# Altium footprint library 电容.PcbLib: 18 footprints (part 1 of 2)
Each footprint in its own frame and in the unit in brackets; x right, y up, seen from the top. Pads: shape width x height; smd on the part's side, far side on the other; paste and mask are expansions set on the pad; w line width, h text height; cw(c..) or ccw(c..) is an arc to the next point about the centre after c.
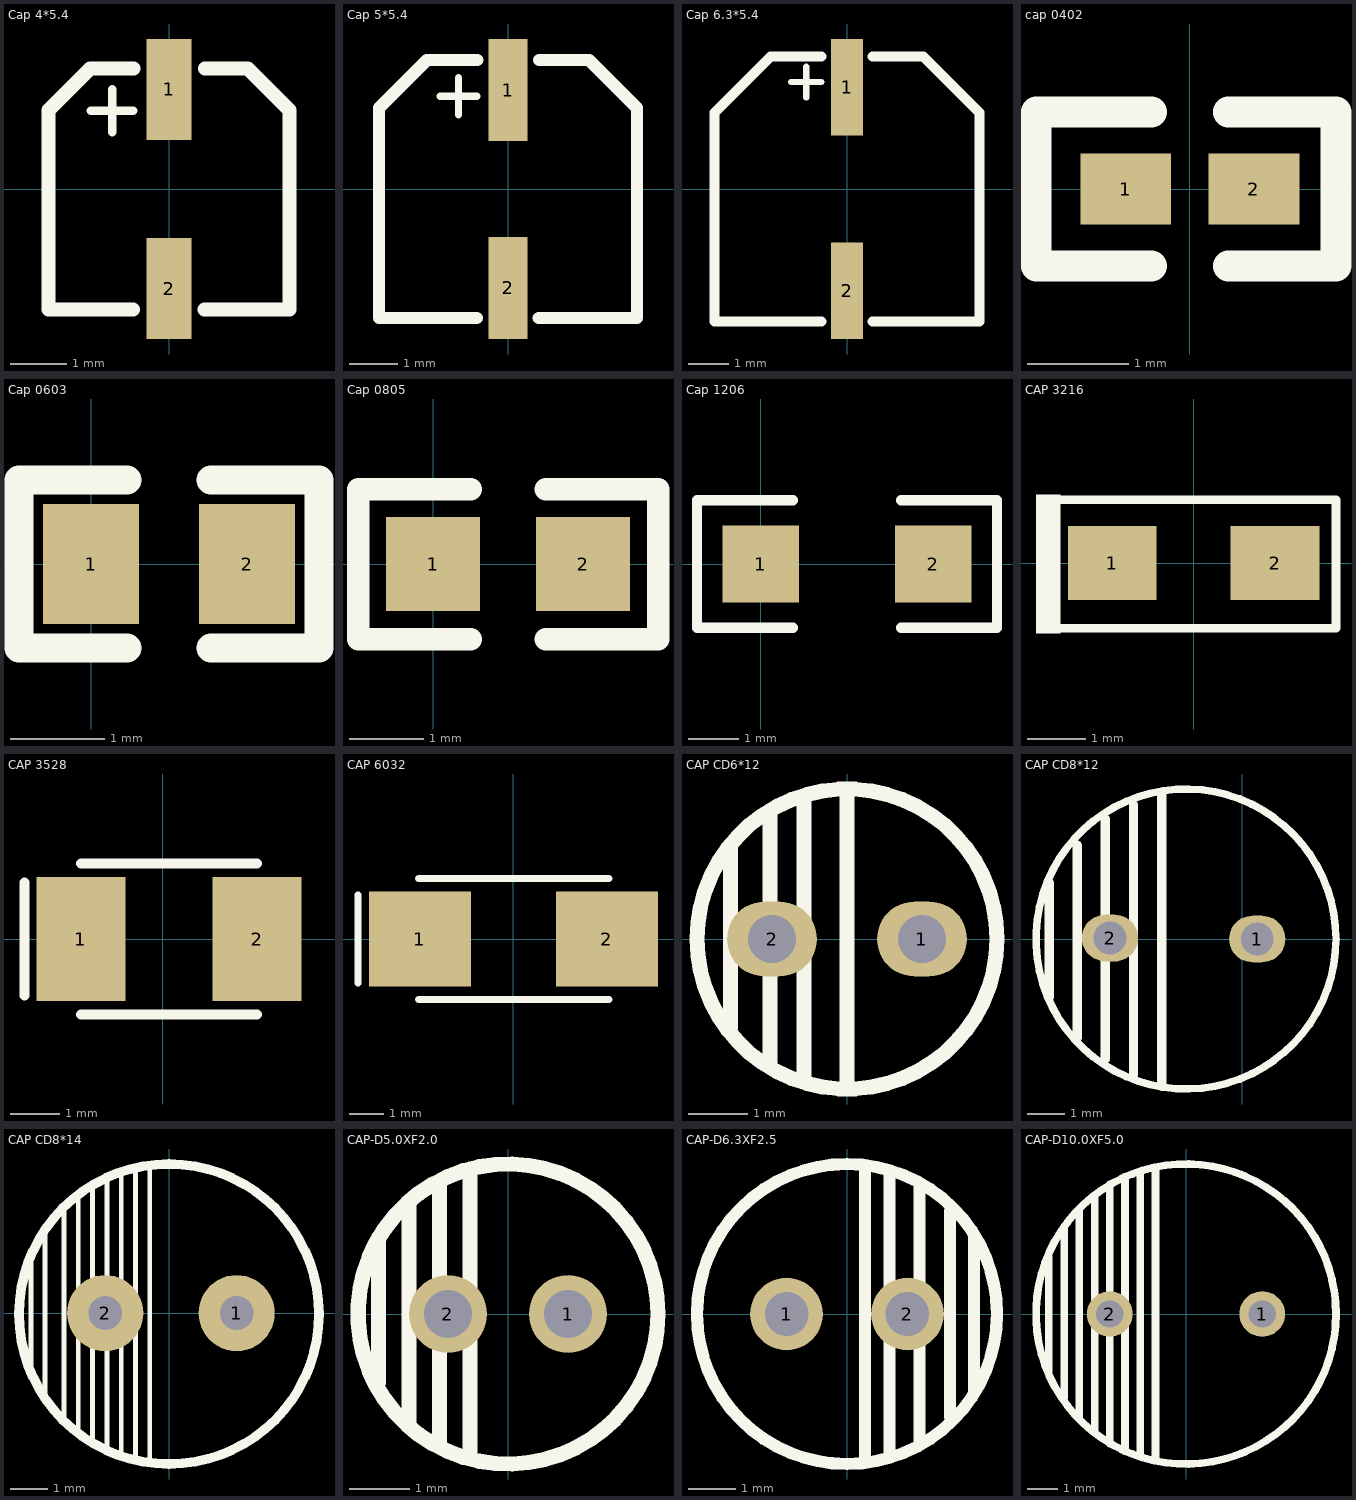
[diagram p0: the footprints below, top view; thin cyan lines are the x and y axes]

## Cap 4*5.4 [mm] "铝电解"
pads (2):
  rect 0.8x1.8 smd: 1(0,1.778) 2(0,-1.778)
Top Overlay:
  lines w0.15: -1.397,1.397 -0.635,1.397 ; -1.016,1.016 -1.016,1.778
  lines w0.254: -0.644,-2.15 -2.15,-2.15 -2.15,1.406 -1.406,2.15 -0.635,2.15 ; 0.635,-2.15 2.15,-2.15 2.15,1.406 1.406,2.15 0.644,2.15

## Cap 5*5.4 [mm] "铝电解"
pads (2):
  rect 0.8x2.1 smd: 1(0,2.032) 2(0,-2.032)
Top Overlay:
  lines w0.15: -1.397,1.905 -0.635,1.905 ; -1.016,1.524 -1.016,2.286
  lines w0.254: -0.644,-2.65 -2.65,-2.65 -2.65,1.668 -1.668,2.65 -0.635,2.65 ; 0.635,-2.65 2.65,-2.65 2.65,1.668 1.668,2.65 0.644,2.65

## Cap 6.3*5.4 [mm] "铝电解"
pads (2):
  rect 0.8x2.4 smd: 1(0,2.54) 2(0,-2.54)
Top Overlay:
  lines w0.15: -1.397,2.667 -0.635,2.667 ; -1.016,2.286 -1.016,3.048
  lines w0.254: -0.644,-3.3 -3.302,-3.302 -3.3,1.907 -1.907,3.3 -0.635,3.3 ; 0.635,-3.3 3.302,-3.302 3.3,1.907 1.907,3.3 0.644,3.3

## cap 0402 [mm]
pads (2):
  rect 0.9x0.7 smd: 1(-0.635,0) 2(0.635,0)
Top Overlay:
  lines w0.305: -0.381,-0.762 -1.524,-0.762 -1.524,0.762 -0.381,0.762 ; 0.381,-0.762 1.448,-0.762 1.448,0.762 0.381,0.762

## Cap 0603 [mil]
pads (2):
  rect 40x50 smd: 1(0,0) 2(65,0)
Top Overlay:
  lines w12: 15,-35 -30,-35 -30,35 15,35 ; 50,-35 95,-35 95,35 50,35

## Cap 0805 [mil]
pads (2):
  rect 50x50 smd: 1(0,0) 2(80,0)
Top Overlay:
  lines w12: 20,-40 -40,-40 -40,40 20,40 ; 60,-40 120,-40 120,40 60,40

## Cap 1206 [mil]
pads (2):
  rect 60x60 smd: 1(0,0) 2(135,0)
Top Overlay:
  lines w8: 25,-50 -50,-50 -50,50 25,50 ; 110,-50 185,-50 185,50 110,50

## CAP 3216 [mil]
pads (2):
  rect 60x50 smd: 1(-55,0) 2(55,0)
Top Overlay:
  region: -90,46.39 -106.46,46.39 -106.46,-47.61 -90,-47.61
  lines w5.91: -94.83,-43.92 96.11,-43.92 96.11,42.69 -94.83,42.69

## CAP 3528 [mm]
pads (2):
  rect 1.8x2.5 smd: 1(-1.651,0) 2(1.905,0)
Top Overlay:
  lines w0.2: -2.794,-1.143 -2.794,1.143 ; -1.651,1.524 1.905,1.524 ; -1.648,-1.524 1.905,-1.524
3D body: height 1.1, standoff 0, extent 1.651,-0.953 1.905,0.953
3D body: height 1, standoff 0, extent -1.778,-1.397 2.032,1.397

## CAP 6032 [mm] "钽电容"
pads (2):
  rect 3x2.8 smd: 1(-2.75,0) 2(2.75,0)
Top Overlay:
  lines w0.2: -4.572,-1.3 -4.572,1.3 ; -2.794,-1.778 2.806,-1.778 ; -2.794,1.778 2.806,1.778
3D body: height 1.3, standoff 0, extent -2.921,-1.651 2.921,1.651
3D body: height 1, standoff 0, extent -3.175,-1.143 -2.921,1.143
3D body: height 1, standoff 0, extent 2.921,-1.143 3.175,1.143

## CAP CD6*12 [mil]
pads (2):
  oval 60x50 hole 32: 1(50,0) 2(-50,0)
Top Overlay:
  circle w10: c0,0 r100
  lines w10: -77.76,-59.06 -77.76,62.99 ; -51.18,-83.66 -51.18,85.63 ; -28.54,-94.49 -28.54,95.47 ; 0,-100 0,100

## CAP CD8*12 [mil]
pads (2):
  oval 60x50 hole 35: 1(16,0) 2(-141,1)
Top Overlay:
  circle w8: c-60,0 r160
  lines w10: -206,-62 -206,60 ; -176,-105 -176,100 ; -146,-128 -146,128 ; -116,-145 -116,143 ; -86,-157 -86,154

## CAP CD8*14 [mil]
pads (2):
  round 80 hole 35.43: 1(71,0) 2(-67,0)
Top Overlay:
  circle w10: c0,-1 r157.48
  lines w5: -145,-54 -145,53 ; -130.24,-90 -130.24,85 ; -110.24,-110.04 -110.24,110 ; -95.24,-125 -95.24,120 ; -80.24,-135 -80.24,135 ; -65,-145 -65,145 ; -50.24,-150 -50.24,145 ; -35.24,-155 -35.24,150 ; -20.24,-155 -20.24,155

## CAP-D5.0XF2.0 [mm]
pads (2):
  round 1.3 hole 0.8: 1(1,0) 2(-1,0)
Top Overlay:
  circle w0.254: c0,0 r2.5
  lines w0.254: -2.159,-1.143 -2.159,1.27 ; -1.651,-1.778 -1.651,1.778 ; -1.143,-2.159 -1.143,2.159 ; -0.635,-2.286 -0.635,2.413

## CAP-D6.3XF2.5 [mil]
pads (2):
  round 60 hole 35.98: 1(-50,0) 2(50,0)
Top Overlay:
  circle w10: c0,0 r124.02
  lines w10: 15,-120 15,120 ; 35,-115 35,115 ; 60,-105 60,105 ; 85,-85 85,85 ; 105,-65 105,65

## CAP-D10.0XF5.0 [mil]
pads (2):
  round 60 hole 35.98: 1(100,0) 2(-100,0)
Top Overlay:
  circle w10: c0,0 r196.85
  lines w10: -180,-75 -180,75 ; -160,-110 -160,115 ; -140,-135 -140,135 ; -120,-155 -120,155 ; -100,-170 -100,170 ; -80,-180 -80,180 ; -60,-185 -60,185 ; -40,-190 -40,190